# EAGLE library part SN74LVC2G241DCUR (library SN74LVC2G241DCUR)
Dual Buffer/Driver With 3-State Outputs Source: Datasheet <http://www.ti.com/lit/gpn/sn74lvc2g241>
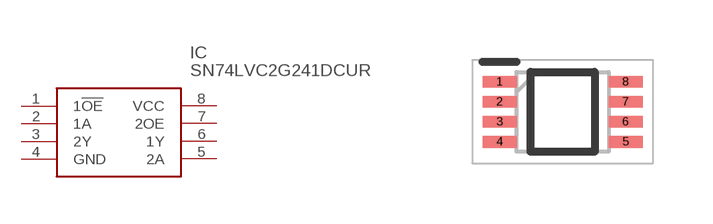
[diagram p0: symbol with the pads of SOP50P310X90-8N; footprint SOP50P310X90-8N]

Designator prefix IC

## SN74LVC2G241DCUR (Description: Dual Buffer/Driver With 3-State Outputs; Height: 0.9mm; Manufacturer_Name: Texas Instruments; Manufacturer_Part_Number: SN74LVC2G241DCUR; Mouser_Part_Number: 595-SN74LVC2G241DCUR; Mouser_Price-Stock: https://www.mouser.co.uk/ProductDetail/Texas-Instruments/SN74LVC2G241DCUR?qs=JS6RUWRH9DV7W1UO8b3P2w%3D%3D)  [SOP50P310X90-8N]
1  1!OE
2  1A
3  2Y
4  GND
5  2A
6  1Y
7  2OE
8  VCC

## Footprint SOP50P310X90-8N (pad centres in mm)
DCU (R-PDSO-G8)
smd 0.85 x 0.3: 1 -1.575,0.75; 2 -1.575,0.25; 3 -1.575,-0.25; 4 -1.575,-0.75; 5 1.575,-0.75; 6 1.575,-0.25; 7 1.575,0.25; 8 1.575,0.75